# Altium footprint library 常用原件库.PcbLib: 19 footprints (part 2 of 2)
Each footprint in its own frame and in the unit in brackets; x right, y up, seen from the top. Pads: shape width x height; smd on the part's side, far side on the other; paste and mask are expansions set on the pad; w line width, h text height; cw(c..) or ccw(c..) is an arc to the next point about the centre after c.
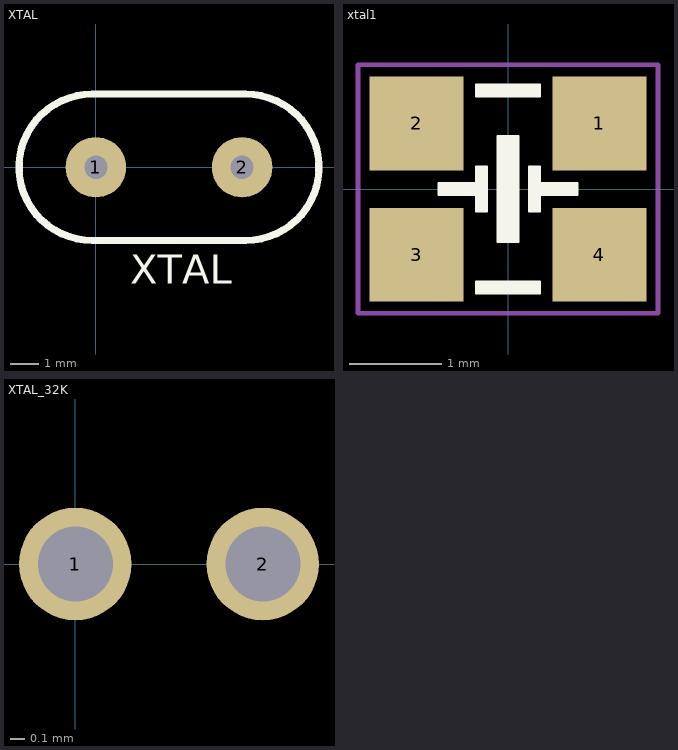
[diagram p1: the footprints below, top view; thin cyan lines are the x and y axes]

## XTAL [mm] "XTAL"
pads (2):
  round 2.1 hole 0.8: 1(0,0) 2(5.08,0)
Top Overlay:
  lines w0.254: -0.127,-2.54 cw(c-0.127,0) -0.127,2.54 5.207,2.54 cw(c5.207,0) 5.207,-2.54 -0.127,-2.54
  text "XTAL" at 1.2,-4.05 h1.02

## xtal1 [mil] "XTAL1"
pads (4):
  rect 40x40 smd: 1(39,28) 2(-39,28) 3(-39,-28) 4(39,-28)
Top Overlay:
  region: 9,9.5 13.5,9.5 13.5,2.5 29.5,2.5 29.5,-2.5 13.5,-2.5 13.5,-9.5 9,-9.5
  region: -4.5,22.5 4.5,22.5 4.5,-22.5 -4.5,-22.5
  region: -29.5,2.5 -13.5,2.5 -13.5,9.5 -9,9.5 -9,-9.5 -13.5,-9.5 -13.5,-2.5 -29.5,-2.5
  region: -13.5,-39.5 13.5,-39.5 13.5,-44.5 -13.5,-44.5
  region: -13.5,44.5 13.5,44.5 13.5,39.5 -13.5,39.5
  lines w1: -29.5,-2.5 -29.5,2.5 -13.5,2.5 -13.5,9.5 -9,9.5 -9,-9.5 -13.5,-9.5 -13.5,-2.5 -29.5,-2.5 ; -13.5,-44.5 -13.5,-39.5 13.5,-39.5 13.5,-44.5 -13.5,-44.5 ; -13.5,39.5 13.5,39.5 13.5,44.5 -13.5,44.5 -13.5,39.5 ; -4.5,-22.5 -4.5,22.5 4.5,22.5 4.5,-22.5 -4.5,-22.5 ; 9,-9.5 13.5,-9.5 13.5,-2.5 29.5,-2.5 29.5,2.5 13.5,2.5 13.5,9.5 9,9.5 9,-9.5
Mechanical 14:
  lines w2: -64,-53 -64,53 64,53 64,-53 -64,-53
3D body: height 31.1, standoff 0, extent -49.21,-39.36 49.22,39.37

## XTAL_32K [mil] "XTAL_32K"
pads (2):
  round 30 hole 20: 1(0,0) 2(50,0)